# Altium footprint library DIP-CN  0607.PcbLib: 329 footprints (part 13 of 21)
Each footprint in its own frame and in the unit in brackets; x right, y up, seen from the top. Pads: shape width x height; smd on the part's side, far side on the other; paste and mask are expansions set on the pad; w line width, h text height; cw(c..) or ccw(c..) is an arc to the next point about the centre after c.
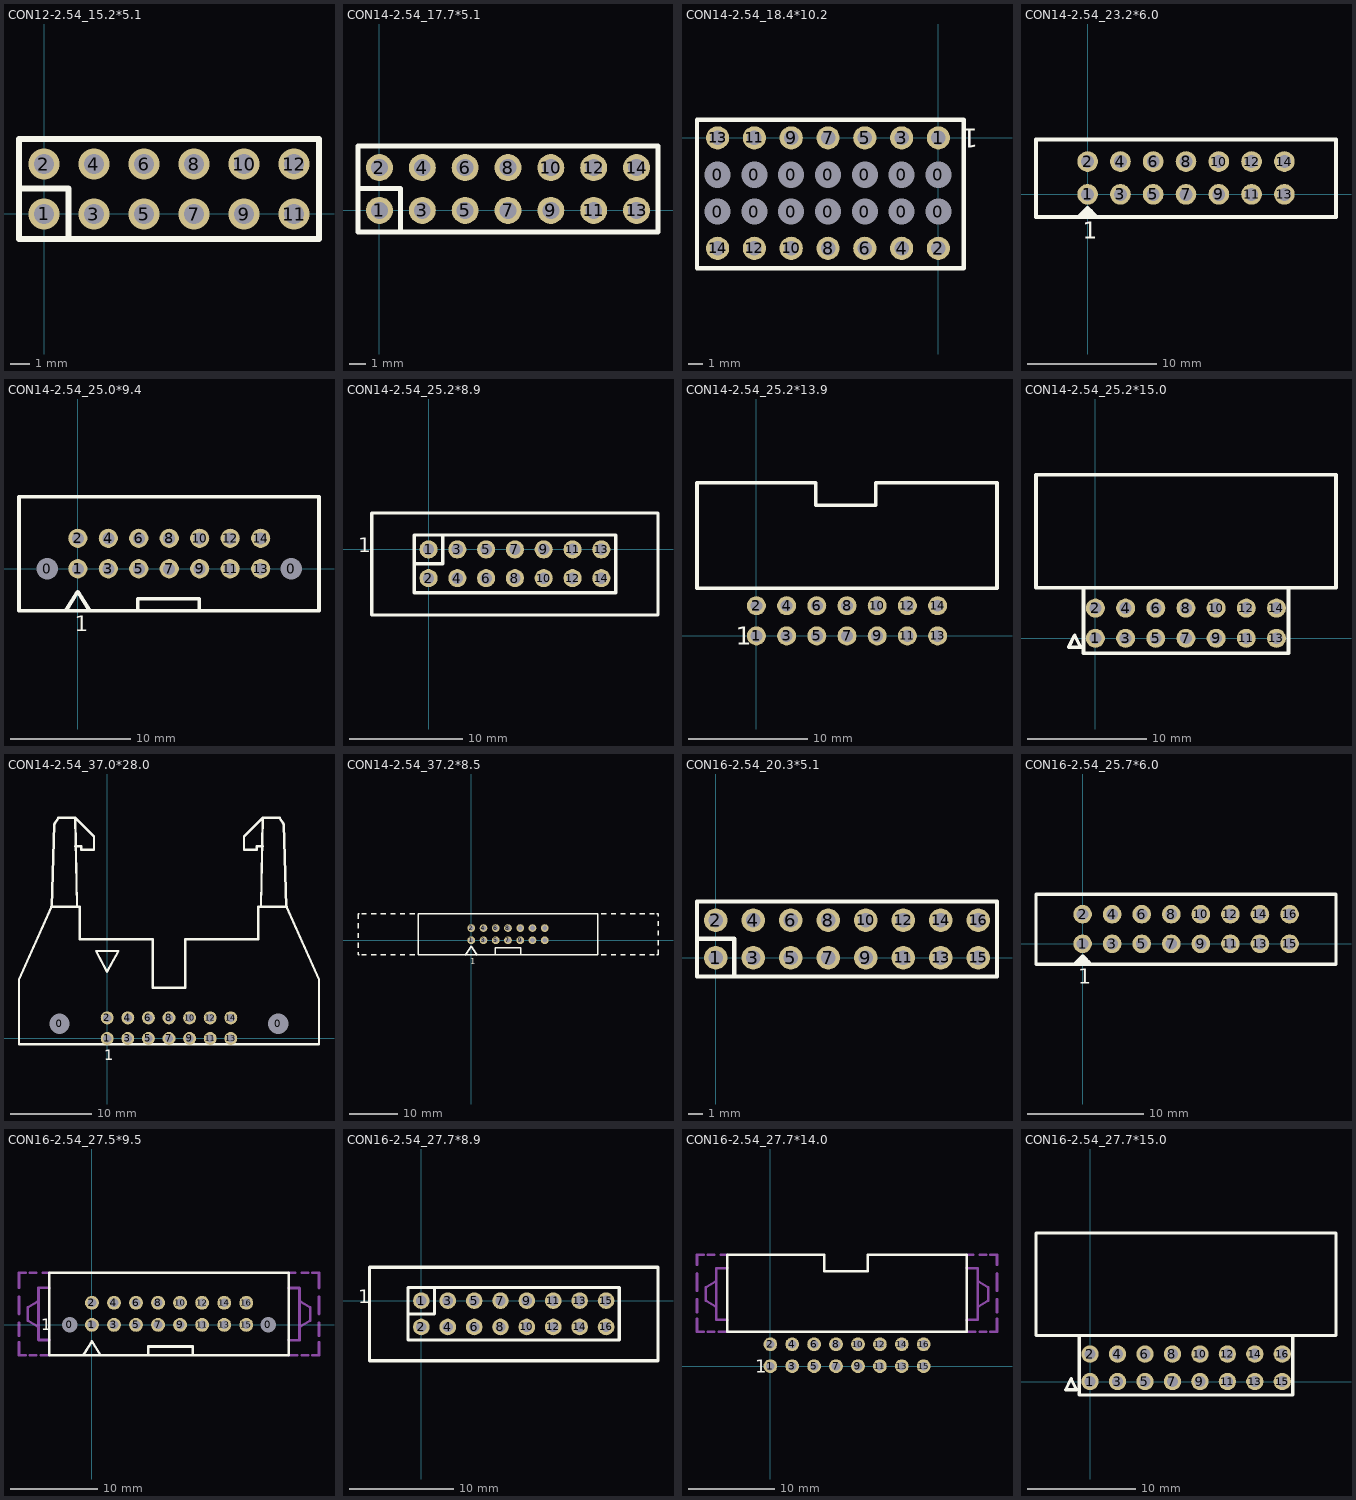
[diagram p12: the footprints below, top view; thin cyan lines are the x and y axes]

## CON12-2.54_15.2*5.1 [mm]
pads (12):
  round 1.6 hole 1: 1(0,0) 2(0,2.54) 3(2.54,0) 4(2.54,2.54) 5(5.08,0) 6(5.08,2.54) 7(7.62,0) 8(7.62,2.54) 9(10.16,0) 10(10.16,2.54) 11(12.7,0) 12(12.7,2.54)
TopOverlay:
  lines w0.3: -1.27,1.3 1.25,1.3 1.25,-1.245 ; -1.27,-1.27 -1.27,3.81 13.97,3.81 13.97,-1.27 -1.27,-1.27

## CON14-2.54_17.7*5.1 [mm]
pads (14):
  round 1.6 hole 1: 1(0,0) 2(0,2.54) 3(2.54,0) 4(2.54,2.54) 5(5.08,0) 6(5.08,2.54) 7(7.62,0) 8(7.62,2.54) 9(10.16,0) 10(10.16,2.54) 11(12.7,0) 12(12.7,2.54) 13(15.24,0) 14(15.24,2.54)
TopOverlay:
  lines w0.3: -1.27,1.3 1.25,1.3 1.25,-1.245 ; -1.27,-1.27 -1.27,3.81 16.51,3.81 16.51,-1.27 -1.27,-1.27

## CON14-2.54_18.4*10.2 [mm]
pads (28):
  round 1.5 hole 1.8 unplated: 0(-15.24,-5.08) 0(-15.24,-2.54) 0(-12.7,-5.08) 0(-12.7,-2.54) 0(-10.16,-5.08) 0(-10.16,-2.54) 0(-7.62,-5.08) 0(-7.62,-2.54) 0(-5.08,-5.08) 0(-5.08,-2.54) 0(-2.54,-5.08) 0(-2.54,-2.54) 0(0,-5.08) 0(0,-2.54)
  round 1.6 hole 1: 1(0,0) 2(0,-7.62) 3(-2.54,0) 4(-2.54,-7.62) 5(-5.08,0) 6(-5.08,-7.62) 7(-7.62,0) 8(-7.62,-7.62) 9(-10.16,0) 10(-10.16,-7.62) 11(-12.7,0) 12(-12.7,-7.62) 13(-15.24,0) 14(-15.24,-7.62)
TopOverlay:
  lines w0.3: -16.66,-9 -16.66,1.25 1.75,1.25 1.75,-9 -16.66,-9
  text "1" at 2.739,0.648 h1.3

## CON14-2.54_23.2*6.0 [mm]
pads (14):
  round 1.6 hole 1: 1(0,0) 2(0,2.54) 3(2.54,0) 4(2.54,2.54) 5(5.08,0) 6(5.08,2.54) 7(7.62,0) 8(7.62,2.54) 9(10.16,0) 10(10.16,2.54) 11(12.7,0) 12(12.7,2.54) 13(15.24,0) 14(15.24,2.54)
TopOverlay:
  lines w0.3: -0.7,-1.75 0,-1.05 ; -0.515,-1.565 0.515,-1.565 ; -0.423,-1.473 0.306,-1.473 ; -0.258,-1.308 0.251,-1.308 ; 0,-1.75 0,-1.05 ; 0.7,-1.75 0,-1.05 ; -4,-1.75 -4,4.25 19.24,4.25 19.24,-1.75 -4,-1.75
  text "1" at -0.381,-3.429 h1.3

## CON14-2.54_25.0*9.4 [mm]
pads (16):
  round 1.5 hole 1.8 unplated: 0(-2.54,0) 0(17.78,0)
  round 1.6 hole 1: 1(0,0) 2(0,2.54) 3(2.54,0) 4(2.54,2.54) 5(5.08,0) 6(5.08,2.54) 7(7.62,0) 8(7.62,2.54) 9(10.16,0) 10(10.16,2.54) 11(12.7,0) 12(12.7,2.54) 13(15.24,0) 14(15.24,2.54)
TopOverlay:
  lines w0.3: 5,-3.5 5,-2.5 10.12,-2.5 10.12,-3.5 ; -1,-3.5 0,-1.905 1,-3.5 ; -1,-3.5 1,-3.5 ; -1,-3.5 1,-3.5 ; -1,-3.5 1,-3.5 ; -4.9,-3.5 20.1,-3.5 20.1,6 -4.9,6 -4.9,-3.5
  text "1" at -0.254,-5.207 h1.3
BottomOverlay:
  lines w0.3: -1.016,1.27 16.129,1.27 ; 1.27,-0.889 1.27,3.556 ; 3.81,-0.889 3.81,3.556 ; 6.35,-0.889 6.35,3.556 ; 8.89,-0.889 8.89,3.556 ; 11.43,-0.889 11.43,3.556 ; 13.97,-0.889 13.97,3.556

## CON14-2.54_25.2*8.9 [mm]
pads (14):
  round 1.6 hole 1: 1(0,0) 2(0,-2.54) 3(2.54,0) 4(2.54,-2.54) 5(5.08,0) 6(5.08,-2.54) 7(7.62,0) 8(7.62,-2.54) 9(10.16,0) 10(10.16,-2.54) 11(12.7,0) 12(12.7,-2.54) 13(15.24,0) 14(15.24,-2.54)
TopOverlay:
  lines w0.3: -1.27,-1.27 1.27,-1.27 1.27,1.27 ; -5,-5.79 -5,3.21 20.24,3.21 20.24,-5.79 -5,-5.79 ; -1.27,-3.81 16.5,-3.81 16.5,1.27 -1.27,1.27 -1.27,-3.81
  text "1" at -6.223,-0.254 h1.3
BottomOverlay:
  lines w0.3: -1.27,-1.27 16.51,-1.27 ; 1.27,-3.429 1.27,1.016 ; 3.81,-3.429 3.81,1.016 ; 6.35,-3.429 6.35,1.016 ; 8.89,-3.429 8.89,1.016 ; 11.43,-3.429 11.43,1.016 ; 13.97,-3.429 13.97,1.016

## CON14-2.54_25.2*13.9 [mm]
pads (14):
  round 1.6 hole 1: 1(0,0) 2(0,2.54) 3(2.54,0) 4(2.54,2.54) 5(5.08,0) 6(5.08,2.54) 7(7.62,0) 8(7.62,2.54) 9(10.16,0) 10(10.16,2.54) 11(12.7,0) 12(12.7,2.54) 13(15.24,0) 14(15.24,2.54)
TopOverlay:
  lines w0.3: -5,4 20.24,4 20.24,12.9 10.05,12.9 10.05,11 5,11 5,12.9 -5,12.9 -5,4
  text "1" at -1.75,-0.75 h1.52

## CON14-2.54_25.2*15.0 [mm]
pads (14):
  round 1.6 hole 1: 1(0,0) 2(0,2.54) 3(2.54,0) 4(2.54,2.54) 5(5.08,0) 6(5.08,2.54) 7(7.62,0) 8(7.62,2.54) 9(10.16,0) 10(10.16,2.54) 11(12.7,0) 12(12.7,2.54) 13(15.24,0) 14(15.24,2.54)
TopOverlay:
  lines w0.3: -1,4.25 -1,-1.25 16.25,-1.25 16.25,4.25 ; -5,4.25 -5,13.75 20.25,13.75 20.25,4.25 -5,4.25 ; -2.25,-0.75 -1.75,0.25 -1.25,-0.75 -1.5,-0.75 -2,-0.75 -2.25,-0.75
BottomOverlay:
  lines w0.3: -1.016,1.27 16.129,1.27 ; 1.27,-0.829 1.27,3.616 ; 3.81,-0.829 3.81,3.616 ; 6.35,-0.829 6.35,3.616 ; 8.89,-0.829 8.89,3.616 ; 11.43,-0.829 11.43,3.616 ; 13.97,-0.829 13.97,3.616

## CON14-2.54_37.0*28.0 [mm]
pads (16):
  round 1.6 hole 2.5 unplated: 0(-5.88,1.8) 0(21.08,1.8)
  round 1.6 hole 1: 1(0,0) 2(0,2.54) 3(2.54,0) 4(2.54,2.54) 5(5.08,0) 6(5.08,2.54) 7(7.62,0) 8(7.62,2.54) 9(10.16,0) 10(10.16,2.54) 11(12.7,0) 12(12.7,2.54) 13(15.24,0) 14(15.24,2.54)
TopOverlay:
  lines w0.3: -6.827,16.26 -6.527,26.399 -6.027,27.199 -3.927,27.199 ; -3.927,23.699 -3.227,23.699 -3.227,23.299 -1.627,23.299 -1.627,24.899 -3.927,27.199 ; -3.727,16.26 -3.927,27.199 ; 18.967,16.26 19.167,27.199 ; 19.167,23.699 18.467,23.699 18.467,23.299 16.867,23.299 16.867,24.899 19.167,27.199 ; 22.067,16.26 21.767,26.399 21.267,27.199 19.167,27.199 ; -10.88,-0.74 26.12,-0.74 26.12,7.26 22.12,16.26 18.62,16.26 18.62,12.26 9.62,12.26 9.62,6.26 5.62,6.26 5.62,12.26 -3.38,12.26 -3.38,16.26 -6.88,16.26 -10.88,7.26 -10.88,-0.74 ; -1.38,10.785 1.395,10.785 -0.03,8.235 -1.38,10.785
  text "1" at -0.381,-2.667 h1.3
BottomOverlay:
  lines w0.3: -1.016,1.27 16.129,1.27 ; 1.27,-0.889 1.27,3.556 ; 3.81,-0.889 3.81,3.556 ; 6.35,-0.889 6.35,3.556 ; 8.89,-0.889 8.89,3.556 ; 11.43,-0.889 11.43,3.556 ; 13.97,-0.889 13.97,3.556

## CON14-2.54_37.2*8.5 [mm]
pads (14):
  round 1.6 hole 1: 1(0,0) 2(0,2.54) 3(2.54,0) 4(2.54,2.54) 5(5.08,0) 6(5.08,2.54) 7(7.62,0) 8(7.62,2.54) 9(10.16,0) 10(10.16,2.54) 11(12.7,0) 12(12.7,2.54) 13(15.24,0) 14(15.24,2.54)
TopOverlay:
  lines w0.3: -23.5,-2.5 -23.5,-3 -23.25,-3 ; -23.5,-1.5 -23.5,-0.5 ; -23.5,0.5 -23.5,1.5 ; -23.5,2.5 -23.5,3.5 ; -23.5,4.5 -23.5,5.5 -23.25,5.5 ; -22.75,-3 -21.75,-3 ; -22.75,5.5 -21.75,5.5 ; -20.75,-3 -19.75,-3 ; -20.75,5.5 -19.75,5.5 ; -18.75,-3 -17.75,-3 ; -18.75,5.5 -17.75,5.5 ; -16.75,-3 -15.75,-3 ; -16.75,5.5 -15.75,5.5 ; -14.75,-3 -13.75,-3 ; -14.75,5.5 -13.75,5.5 ; -12.75,-3 -11.75,-3 ; -12.75,5.5 -11.75,5.5 ; -1.27,-3.048 0,-1.27 1.27,-3.048 ; 5,-3 5,-1.5 10.25,-1.5 10.25,-3 ; 27,-3 28,-3 ; 27,5.5 28,5.5 ; 29,-3 30,-3 ; 29,5.5 30,5.5 ; 31,-3 32,-3 ; 31,5.5 32,5.5 ; 33,-3 34,-3 ; 33,5.5 34,5.5 ; 35,-3 36,-3 ; 35,5.5 36,5.5 ; 37,-3 38,-3 ; 37,5.5 38,5.5 ; 38.5,-3 38.75,-3 38.75,-2 ; 38.5,5.5 38.75,5.5 38.75,5 ; 38.75,-1 38.75,0 ; 38.75,1 38.75,2 ; 38.75,3 38.75,4 ; -11,-3 26.25,-3 26.25,5.5 -11,5.5 -11,-3
  text "1" at -0.254,-4.953 h1.3
BottomOverlay:
  lines w0.3: -1.016,1.27 16.129,1.27 ; 1.27,-0.889 1.27,3.556 ; 3.81,-0.889 3.81,3.556 ; 6.35,-0.889 6.35,3.556 ; 8.89,-0.889 8.89,3.556 ; 11.43,-0.889 11.43,3.556 ; 13.97,-0.889 13.97,3.556

## CON16-2.54_20.3*5.1 [mm]
pads (16):
  round 1.6 hole 1: 1(0,0) 2(0,2.54) 3(2.54,0) 4(2.54,2.54) 5(5.08,0) 6(5.08,2.54) 7(7.62,0) 8(7.62,2.54) 9(10.16,0) 10(10.16,2.54) 11(12.7,0) 12(12.7,2.54) 13(15.24,0) 14(15.24,2.54) 15(17.78,0) 16(17.78,2.54)
TopOverlay:
  lines w0.3: -1.27,1.3 1.25,1.3 1.25,-1.245 ; -1.27,-1.27 19.05,-1.27 19.05,3.81 -1.27,3.81 -1.27,-1.27

## CON16-2.54_25.7*6.0 [mm]
pads (16):
  round 1.6 hole 1: 1(0,0) 2(0,2.54) 3(2.54,0) 4(2.54,2.54) 5(5.08,0) 6(5.08,2.54) 7(7.62,0) 8(7.62,2.54) 9(10.16,0) 10(10.16,2.54) 11(12.7,0) 12(12.7,2.54) 13(15.24,0) 14(15.24,2.54) 15(17.78,0) 16(17.78,2.54)
TopOverlay:
  lines w0.3: -0.7,-1.75 0,-1.05 ; -0.515,-1.565 0.515,-1.565 ; -0.423,-1.473 0.306,-1.473 ; -0.258,-1.308 0.251,-1.308 ; 0,-1.75 0,-1.05 ; 0.7,-1.75 0,-1.05 ; -4,-1.75 -4,4.25 21.77,4.25 21.77,-1.75 -4,-1.75
  text "1" at -0.381,-3.429 h1.3
BottomOverlay:
  lines w0.3: -1.016,1.27 18.669,1.27 ; 1.27,-0.829 1.27,3.616 ; 3.81,-0.829 3.81,3.616 ; 6.35,-0.829 6.35,3.616 ; 8.89,-0.829 8.89,3.616 ; 11.43,-0.829 11.43,3.616 ; 13.97,-0.829 13.97,3.616 ; 16.51,-0.829 16.51,3.616

## CON16-2.54_27.5*9.5 [mm]
pads (18):
  round 1.5 hole 1.8 unplated: 0(-2.54,0) 0(20.32,0)
  round 1.6 hole 1: 1(0,0) 2(0,2.54) 3(2.54,0) 4(2.54,2.54) 5(5.08,0) 6(5.08,2.54) 7(7.62,0) 8(7.62,2.54) 9(10.16,0) 10(10.16,2.54) 11(12.7,0) 12(12.7,2.54) 13(15.24,0) 14(15.24,2.54) 15(17.78,0) 16(17.78,2.54)
TopOverlay:
  lines w0.3: 6.5,-3.5 6.5,-2.5 11.62,-2.5 11.62,-3.5 ; -1,-3.5 0,-1.905 1,-3.5 ; -1,-3.5 1,-3.5 ; -1,-3.5 1,-3.5 ; -1,-3.5 1,-3.5 ; -4.9,-3.5 22.657,-3.505 22.657,5.994 -4.9,6 -4.9,-3.5
  text "1" at -5.842,-0.635 h1.3
BottomOverlay:
  lines w0.3: -1.016,1.27 18.415,1.27 ; 1.27,-0.829 1.27,3.616 ; 3.81,-0.829 3.81,3.616 ; 6.35,-0.829 6.35,3.616 ; 8.89,-0.829 8.89,3.616 ; 11.43,-0.829 11.43,3.616 ; 13.97,-0.829 13.97,3.616 ; 16.51,-0.829 16.51,3.616
Mechanical7:
  lines w0.3: -8.4,-2 -8.4,-3.5 -7.65,-3.5 ; -8.4,-1.25 -8.4,0.25 ; -8.4,1.25 -8.4,3.25 ; -8.4,4.25 -8.4,6 -7.65,6 ; -7.15,-3.5 -6.4,-3.5 ; -7.15,6 -6.4,6 ; -5.9,-3.5 -4.9,-3.5 ; -5.65,6 -4.9,6 ; -4.9,-1.75 -6.15,-1.75 -6.15,-0.25 ; -4.9,4.25 -6.15,4.25 -6.15,2.75 ; 22.657,-3.505 23.657,-3.505 ; 22.657,-1.755 23.907,-1.755 23.907,-0.255 ; 22.657,4.245 23.907,4.245 23.907,2.745 ; 22.657,5.995 23.407,5.995 ; 24.157,-3.505 24.907,-3.505 ; 24.157,5.995 24.907,5.995 ; 25.407,-3.505 26.157,-3.505 26.157,-2.005 ; 25.407,5.995 26.157,5.995 26.157,4.245 ; 26.157,-1.255 26.157,0.245 ; 26.157,1.245 26.157,3.245 ; -6.15,-0.25 -7.4,0.5 -7.4,2 -6.15,2.75 ; -6.15,-0.25 -6.15,2.75 ; 23.907,-0.255 25.157,0.495 25.157,1.995 23.907,2.745 ; 23.907,-0.255 23.907,2.745

## CON16-2.54_27.7*8.9 [mm]
pads (16):
  round 1.6 hole 1: 1(0,0) 2(0,-2.54) 3(2.54,0) 4(2.54,-2.54) 5(5.08,0) 6(5.08,-2.54) 7(7.62,0) 8(7.62,-2.54) 9(10.16,0) 10(10.16,-2.54) 11(12.7,0) 12(12.7,-2.54) 13(15.24,0) 14(15.24,-2.54) 15(17.78,0) 16(17.78,-2.54)
TopOverlay:
  lines w0.3: -1.27,-1.29 1.25,-1.29 ; 1.27,-1.25 1.27,1.27 ; -5,-5.79 22.78,-5.79 22.78,3.21 -5,3.21 -5,-5.79 ; -1.27,-3.81 -1.27,1.27 19.05,1.27 19.05,-3.81 -1.27,-3.81
  text "1" at -6.096,-0.254 h1.3

## CON16-2.54_27.7*14.0 [mm]
pads (16):
  round 1.6 hole 1: 1(0,0) 2(0,2.54) 3(2.54,0) 4(2.54,2.54) 5(5.08,0) 6(5.08,2.54) 7(7.62,0) 8(7.62,2.54) 9(10.16,0) 10(10.16,2.54) 11(12.7,0) 12(12.7,2.54) 13(15.24,0) 14(15.24,2.54) 15(17.78,0) 16(17.78,2.54)
TopOverlay:
  lines w0.3: -5,4 22.78,4 22.78,12.9 11.3,12.9 11.3,11 6.25,11 6.25,12.9 -5,12.9 -5,4
  text "1" at -1.75,-0.75 h1.52
Mechanical7:
  lines w0.3: -8.5,5.5 -8.5,4 -7.75,4 ; -8.5,6.25 -8.5,7.75 ; -8.5,8.75 -8.5,10.75 ; -8.5,11.75 -8.5,12.9 -7.75,12.9 ; -7.25,4 -6.5,4 ; -7.25,12.9 -6.5,12.9 ; -6,4 -5,4 ; -5.75,12.9 -5,12.9 ; -5,5.369 -6.25,5.369 -6.25,6.869 ; -5,11.369 -6.25,11.369 -6.25,9.869 ; 22.78,4 23.78,4 ; 22.78,5.369 24.03,5.369 24.03,6.869 ; 22.78,11.369 24.03,11.369 24.03,9.869 ; 22.78,12.9 23.53,12.9 ; 24.28,4 25.03,4 ; 24.28,12.9 25.03,12.9 ; 25.53,4 26.28,4 26.28,5.5 ; 25.53,12.9 26.28,12.9 26.28,11.75 ; 26.28,6.25 26.28,7.75 ; 26.28,8.75 26.28,10.75 ; -6.25,6.869 -6.25,9.869 ; -6.25,6.869 -7.5,7.619 -7.5,9.119 -6.25,9.869 ; 24.03,6.869 24.03,9.869 ; 24.03,6.869 25.28,7.619 25.28,9.119 24.03,9.869

## CON16-2.54_27.7*15.0 [mm]
pads (16):
  round 1.6 hole 1: 1(0,0) 2(0,2.54) 3(2.54,0) 4(2.54,2.54) 5(5.08,0) 6(5.08,2.54) 7(7.62,0) 8(7.62,2.54) 9(10.16,0) 10(10.16,2.54) 11(12.7,0) 12(12.7,2.54) 13(15.24,0) 14(15.24,2.54) 15(17.78,0) 16(17.78,2.54)
TopOverlay:
  lines w0.3: -1,4.25 -1,-1.25 18.75,-1.25 18.75,4.25 ; -5,4.25 22.75,4.25 22.75,13.75 -5,13.75 -5,4.25 ; -2.25,-0.75 -2,-0.75 -1.5,-0.75 -1.25,-0.75 -1.75,0.25 -2.25,-0.75
BottomOverlay:
  lines w0.3: -1.016,1.27 18.415,1.27 ; 1.27,-0.829 1.27,3.616 ; 3.81,-0.829 3.81,3.616 ; 6.35,-0.829 6.35,3.616 ; 8.89,-0.829 8.89,3.616 ; 11.43,-0.829 11.43,3.616 ; 13.97,-0.829 13.97,3.616 ; 16.51,-0.829 16.51,3.616